# EAGLE library part HM-11 (library BluJoy-e)
Bluetooth 4.0 BLE module Source: Datasheet <https://www.seeedstudio.com/wiki/images/c/cd/Bluetooth4_en.pdf>
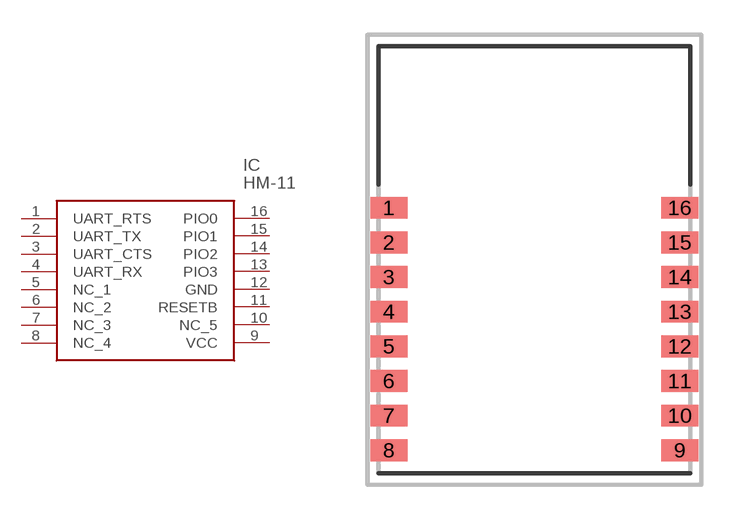
[diagram p0: symbol with the pads of HM-11-MODULE; footprint HM-11-MODULE]

Designator prefix IC

## HM-11 (ARROW_PART_NUMBER: HM-11; DESCRIPTION: Bluetooth 4.0 BLE module; HEIGHT: mm; MANUFACTURER_NAME: Huamao technology Co; MANUFACTURER_PART_NUMBER: HM-11)  [HM-11-MODULE]
1  UART_RTS
2  UART_TX
3  UART_CTS
4  UART_RX
5  NC_1
6  NC_2
7  NC_3
8  NC_4
9  VCC  pwr
10  NC_5
11  RESETB
12  GND  pwr
13  PIO3
14  PIO2
15  PIO1
16  PIO0

## Footprint HM-11-MODULE (pad centres in mm)
HM-11-Module
smd 1.6 x 0.95: 1 0,0; 2 0,-1.5; 3 0,-3; 4 0,-4.5; 5 0,-6; 6 0,-7.5; 7 0,-9; 8 0,-10.5; 9 12.6,-10.5; 10 12.6,-9; 11 12.6,-7.5; 12 12.6,-6; 13 12.6,-4.5; 14 12.6,-3; 15 12.6,-1.5; 16 12.6,0